# EAGLE library part A4950ELJTR-T (library A4950ELJTR-T)
IC MOTOR DRIVER PAR 8SOIC tested: YES (parallel gripper mcb)
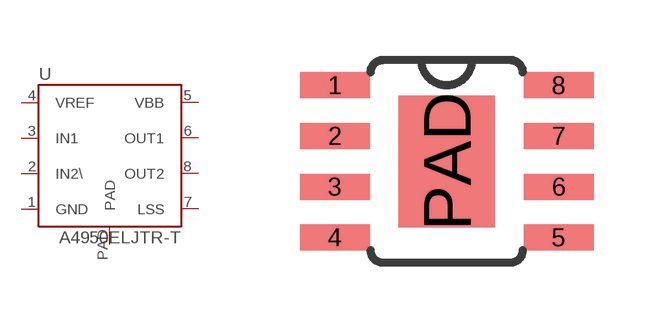
[diagram p0: symbol with the pads of SOIC8TP; footprint SOIC8TP]

Designator prefix U

## A4950ELJTR-T (Description: Full-Bridge PWM Motor Driver 3.5A SOIC8; Digi-Key_Part_Number: 620-1400-1-ND; Digi-Key_Purchase_URL: https://www.digikey.com/product-detail/en/allegro-microsystems-llc/A4950ELJTR-T/620-1400-1-ND/2626340?utm_source=snapeda&utm_medium=aggregator&utm_campaign=symbol; MF: RS Components; MP: A4950ELJTR-T; Package: SOIC-8 RS Components)  [SOIC8TP]
1  GND
2  IN2\
3  IN1
4  VREF
5  VBB
6  OUT1
7  LSS
8  OUT2
PAD  PAD

## Footprint SOIC8TP (pad centres in mm)
smd 1.75 x 0.65: 1 -2.8,1.905; 2 -2.8,0.635; 3 -2.8,-0.635; 4 -2.8,-1.905; 5 2.8,-1.905; 6 2.8,-0.635; 7 2.8,0.635; 8 2.8,1.905
smd 2.41 x 3.3: PAD 0,0